# EAGLE library part C7 (library con-ninigi-3.96)
NINIGI
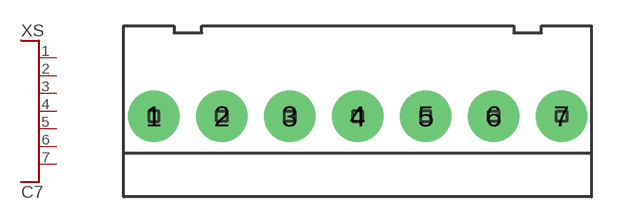
[diagram p1: symbol with the pads of NINIGI7C; footprint NINIGI7C]

Designator prefix XS

## C7  [NINIGI7C]
1  P$1
2  P$2
3  P$3
4  P$4
5  P$5
6  P$6
7  P$7

## Footprint NINIGI7C (pad centres in mm)
drill 1.6 pad 3: 1 -11.88,0; 2 -7.92,0; 3 -3.96,0; 4 0,0; 5 3.96,0; 6 7.92,0; 7 11.88,0